# Altium footprint library SPM7054VT.PcbLib: 1 footprints
Each footprint in its own frame and in the unit in brackets; x right, y up, seen from the top. Pads: shape width x height; smd on the part's side, far side on the other; paste and mask are expansions set on the pad; w line width, h text height; cw(c..) or ccw(c..) is an arc to the next point about the centre after c.
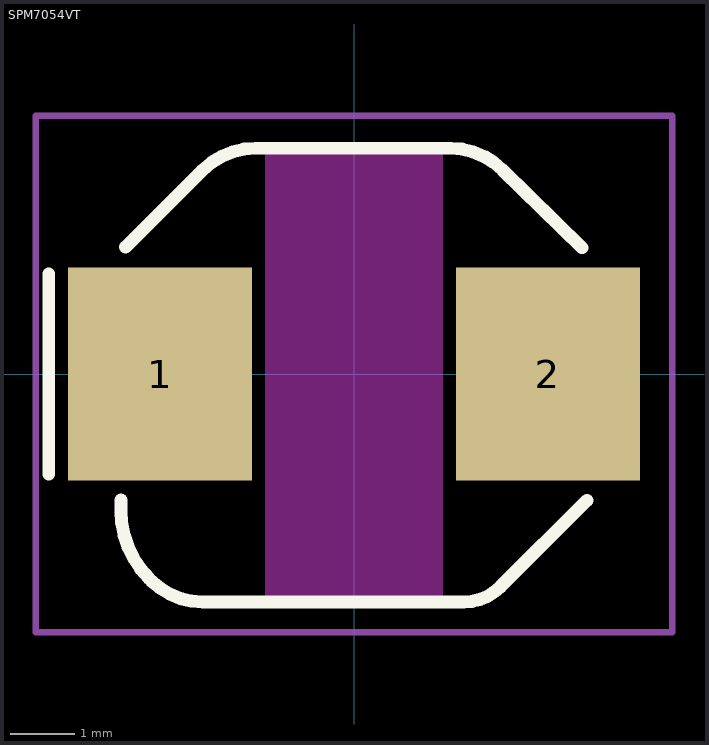
[diagram p0: the footprint, top view; thin cyan lines are the x and y axes]

## SPM7054VT [mm]
height 5.4
pads (2):
  rect 2.85x3.3 smd: 1(-3,0) 2(3,0)
Top Layer keep-out:
  rectangle: -1.375,-3.5 1.375,3.5
Top Overlay:
  lines w0.2: -4.725,-1.55 -4.725,1.55 ; -3.609,-1.95 -3.609,-2.113 ccw(c-2.123,-2.113) -3.173,-3.163 ; -3.538,1.963 -2.351,3.149 cw(c-1.517,2.315) -1.517,3.495 1.083,3.495 1.493,3.494 cw(c1.493,2.359) 2.296,3.161 3.53,1.955 ; -3.136,-3.201 ccw(c-2.343,-2.409) -2.343,-3.529 -1.644,-3.529 1.7,-3.529 ccw(c1.7,-2.729) 2.265,-3.295 3.605,-1.955
Top Courtyard:
  lines w0.1: -4.925,-4 -4.925,4 4.925,4 4.925,-4 -1.375,-4 -4.925,-4
3D body "step_temp.STEP": height 5.4, standoff 0, extent -3.75,-3.5 3.75,3.5